# EAGLE library part MCP2551 (library logic-supply)
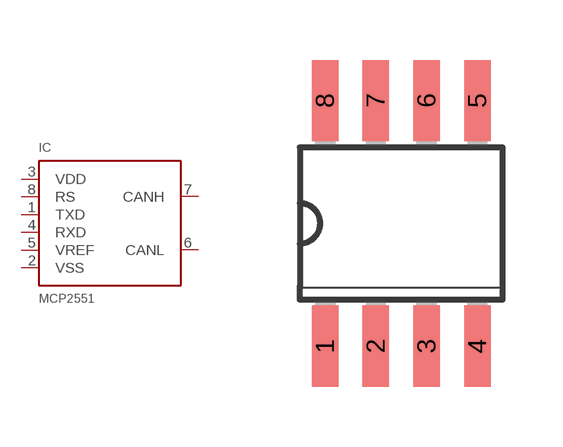
[diagram p25: symbol with the pads of SO08; footprint SO08]

Designator prefix IC

## MCP2551SN  [SO08]
1  TXD
2  VSS
3  VDD
4  RXD
5  VREF
6  CANL
7  CANH
8  RS

## Footprint SO08 (pad centres in mm)
Small Outline Package SOIC 150 mil
smd 0.66 x 2.032: 1 -1.905,-3.073; 2 -0.635,-3.073; 3 0.635,-3.073; 4 1.905,-3.073; 5 1.905,3.073; 6 0.635,3.073; 7 -0.635,3.073; 8 -1.905,3.073